# Altium schematic symbol library SWITCHES.SchLib: 19 symbols
Pins are listed as number, name and electrical type; pins without a type are passive.

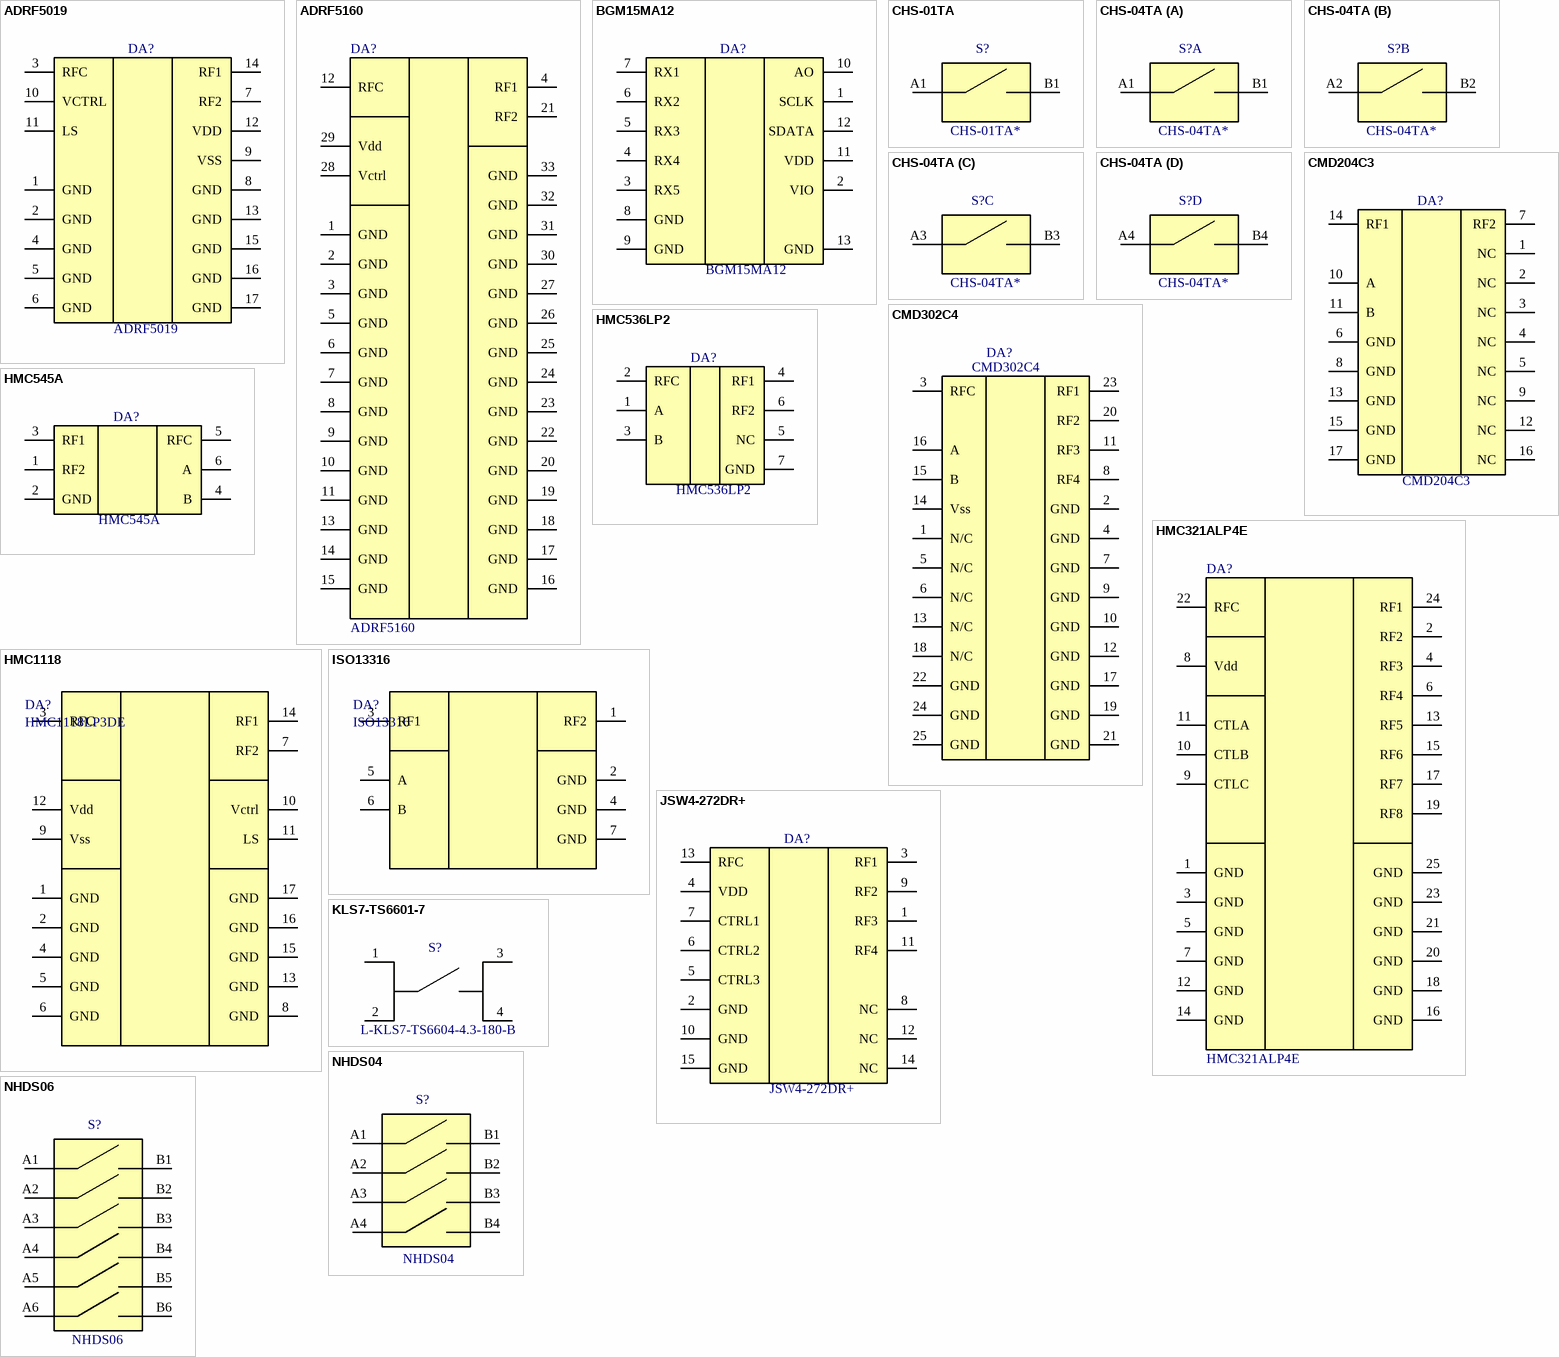
[diagram p0: symbols ADRF5019 to NHDS06]

## ADRF5019
designator DA?
Silicon, SPDT Switch, Nonreflective,  100 MHz to 13 GHz; Manufacturer: Analog Devices; PartNumber: ADRF5019
footprint QFN17P50_300X300X95L30X25T170N (Quad Flat No-Lead (QFN with Tab), 0.50 mm pitch; square, 4 pin X 4 pin, 3.00 mm L X 3.00 mm W X 0.95 mm H body)
pins: 1 GND, 2 GND, 3 RFC, 4 GND, 5 GND, 6 GND, 7 RF2, 8 GND, 9 VSS, 10 VCTRL, 11 LS, 12 VDD, 13 GND, 14 RF1, 15 GND, 16 GND, 17 GND

## ADRF5160
designator DA?
Silicon SPDT, / Reflective Switch, 0.7 GHz to 4.0 GHz; Manufacturer: Analog Devices; PartNumber: ADRF5160; Category: Switch; ComponentLink1Description: DataSheet; ComponentLink1URL: https://ru.mouser.com/datasheet/2/609/adrf5160-1503554.pdf
footprint QFN33P50_500X500X90L40X25T370N (Quad Flat No-Lead (QFN with Tab), 0.50 mm pitch; square, 8 pin X 8 pin, 5.00 mm L X 5.00 mm W X 0.90 mm H body)
pins: 1 GND, 2 GND, 3 GND, 4 RF1, 5 GND, 6 GND, 7 GND, 8 GND, 9 GND, 10 GND, 11 GND, 12 RFC, 13 GND, 14 GND, 15 GND, 16 GND, 17 GND, 18 GND, 19 GND, 20 GND, 21 RF2, 22 GND, 23 GND, 24 GND, 25 GND, 26 GND, 27 GND, 28 Vctrl, 29 Vdd, 30 GND, 31 GND, 32 GND, 33 GND

## BGM15MA12
designator DA?
Mid-Band LNA Multiplexer Module; Manufacturer: Infineon; PartNumber: BGM15MA12
footprint ATSLP-12-2 (Infineon case ATSLP-12-2)
pins: 1 SCLK, 2 VIO, 3 RX5, 4 RX4, 5 RX3, 6 RX2, 7 RX1, 8 GND, 9 GND, 10 AO, 11 VDD, 12 SDATA, 13 GND

## CHS-01TA
designator S?, comment CHS-01TA*
Low profile DIP-switch 1bit washable; Manufacturer: Nidec Copal Electronics; PartNumber: CHS-01TA*; ComponentLink1Description: DataSheet; ComponentLink1URL: https://www.nidec-copal-electronics.com/e/catalog/switch/chs.pdf
footprint CHS-01TA (Nicel Copal Electronics Low Profile)
pins: A1, B1

## CHS-04TA
designator S?, comment CHS-04TA*
Low profile DIP-switch 4bit washable; Manufacturer: Nidec Copal Electronics; PartNumber: CHS-04TA*; ComponentLink1Description: DataSheet; ComponentLink1URL: https://www.nidec-copal-electronics.com/e/catalog/switch/chs.pdf
footprint CHS-04TA (Nicel Copal Electronics Low Profile)
part A pins: A1, B1
part B pins: A2, B2
part C pins: A3, B3
part D pins: A4, B4

## CMD204C3
designator DA?
DC-20 GHz SPST Non-reflective Switch; Manufacturer: CustomMMIC; PartNumber: CMD204C3
footprint PQFN17P50_290X290X90L32X30T150N (Pullback Quad Flat No-Lead (PQFN with Tab), 0.50 mm pitch; square, 4 pin X 4 pin, 2.90 mm L X 2.90 mm W X 0.90 mm H body)
pins: 1 NC, 2 NC, 3 NC, 4 NC, 5 NC, 6 GND, 7 RF2, 8 GND, 9 NC, 10 A, 11 B, 12 NC, 13 GND, 14 RF1, 15 GND, 16 NC, 17 GND

## CMD302C4
designator DA?
DC-20 GHz SP4T Non-reflective Switch; Manufacturer: CustomMMIC; PartNumber: CMD302C4; ComponentLink1Description: DataSheet; ComponentLink1URL: https://www.custommmic.com/resources/cmd302c4-datasheet_0419.pdf
footprint PQFN25P50_390X390X100L32X30T250N (Pullback Quad Flat No-Lead (PQFN with Tab), 0.50 mm pitch; square, 6 pin X 6 pin, 3.90 mm L X 3.90 mm W X 1.00 mm H body)
pins: 1 N/C, 2 GND, 3 RFC, 4 GND, 5 N/C, 6 N/C, 7 GND, 8 RF4, 9 GND, 10 GND, 11 RF3, 12 GND, 13 N/C, 14 Vss, 15 B, 16 A, 17 GND, 18 N/C, 19 GND, 20 RF2, 21 GND, 22 GND, 23 RF1, 24 GND, 25 GND

## HMC321ALP4E
designator DA?
SP8T NON-REFLECTIVE / POSITIVE CONTROL SWITCH, DC - 8 GHz; Manufacturer: Analog Devices; ComponentLink1Description: DataSheet; ComponentLink1URL: https://www.analog.com/media/en/technical-documentation/data-sheets/HMC1118.pdf; Category: Switch; PartNumber: HMC321ALP4E
footprint QFN25P50_400X400X95L40X25T270N (Quad Flat No-Lead (QFN with Tab), 0.50 mm pitch; square, 6 pin X 6 pin, 4.00 mm L X 4.00 mm W X 0.95 mm H body)
pins: 1 GND, 2 RF2, 3 GND, 4 RF3, 5 GND, 6 RF4, 7 GND, 8 Vdd, 9 CTLC, 10 CTLB, 11 CTLA, 12 GND, 13 RF5, 14 GND, 15 RF6, 16 GND, 17 RF7, 18 GND, 19 RF8, 20 GND, 21 GND, 22 RFC, 23 GND, 24 RF1, 25 GND

## HMC536LP2
designator DA?
GaAs MMIC POSITIVE CONTROL T/R SWITCH, DC - 6 GHz; Manufacturer: Analog Devices; PartNumber: HMC536LP2
footprint SON7P65_200X200X100L35X25T140X80N (Small Outline No-Lead (SON with Tab), 0.65 mm pitch; 6 pin, 2.00 mm L X 2.00 mm W X 1.00 mm H body)
pins: 1 A, 2 RFC, 3 B, 4 RF1, 5 NC, 6 RF2, 7 GND

## HMC545A
designator DA?
GaAs MMIC SPDT SWITCH, DC - 3 GHz; Manufacturer: Analog Devices; PartNumber: HMC545A
footprint SOP6P95_290X280X145L45X40N (Small Outline Pkg (SOP), 0.95 mm pitch; 6 pin, 2.90 mm L X 1.60 mm W X 1.45 mm H body)
pins: 1 RF2, 2 GND, 3 RF1, 4 B, 5 RFC, 6 A

## HMC1118
designator DA?, comment HMC1118LP3DE
High Isolation Nonreflective Switch, 9 kHz to 13.0 GHz; Manufacturer: Analog Devices; ComponentLink1Description: DataSheet; ComponentLink1URL: https://www.analog.com/media/en/technical-documentation/data-sheets/HMC1118.pdf; Category: Switch; PartNumber: HMC1118LP3DE
footprint PQFN50P300X300X85_HS-17M (PQFN, 16-Leads, Body 3,00x3,00mm, Pitch 0,50mm, Thermal Pad 1,50x1,50mm, IPC Low Density)
pins: 1 GND, 2 GND, 3 RFC, 4 GND, 5 GND, 6 GND, 7 RF2, 8 GND, 9 Vss, 10 Vctrl, 11 LS, 12 Vdd, 13 GND, 14 RF1, 15 GND, 16 GND, 17 GND

## ISO13316
designator DA?
Non-Reflective Switch, DC to 6 GHz; Manufacturer: Skyworks; Category: Switch; PartNumber: ISO13316; ComponentLink1Description: DataSheet; ComponentLink1URL: http://www.skyworksinc.com/uploads/documents/ISO13316_203249B.pdf
footprint ISO-13316
pins: 1 RF2, 2 GND, 3 RF1, 4 GND, 5 A, 6 B, 7 GND

## JSW4-272DR+
designator DA?
SP4T RF Switch 50Ω 5 to 2700 MHz High Power 3W; Manufacturer: Mini-Circuits; PartNumber: JSW4-272DR+
footprint MT1817 (Mini-Circuits case MT1817)
pins: 1 RF3, 2 GND, 3 RF1, 4 VDD, 5 CTRL3, 6 CTRL2, 7 CTRL1, 8 NC, 9 RF2, 10 GND, 11 RF4, 12 NC, 13 RFC, 14 NC, 15 GND

## KLS7-TS6601-7
designator S?, comment L-KLS7-TS6604-4.3-180-B
Tact Switch; Manufacturer: KLS electronic co ltd; PartNumber: L-KLS7-TS6604-4.3-180-B; ComponentLink1Description: DataSheet; ComponentLink1URL: https://static.chipdip.ru/lib/551/DOC001551970.pdf
footprint DIP2_SOIC450P1000X350-4N (SOIP=C, 4-Leads, Body 6,00x6,00mm, Pitch 4,50mm, IPC Medium Density)
pins: 1, 2, 3, 4

## NHDS04
designator S?
SWITCH SLIDE DIP SPST 25MA 24V 4POS ON; PartNumber: NHDS04; Manufacturer: *
footprint DIP4_SOIC8P127_631X670X145L65X40 (DIP4 based on Small Outline IC (SOIC), 1.27 mm pitch; 8 pin, 6.31 mm L X 4.50 mm W X 1.45 mm H body)
pins: A1, A2, A3, A4, B1, B2, B3, B4

## NHDS06
designator S?
SWITCH SLIDE DIP SPST 25MA 24V 6POS ON; PartNumber: NHDS06; Manufacturer: *
footprint DIP6_SOIC12P127_885X670X145L65X40 (DIP6 based on Small Outline IC (SOIC), 1.27 mm pitch; 12 pin, 8.85 mm L X 4.50 mm W X 1.45 mm H body)
pins: A1, A2, A3, A4, A5, A6, B1, B2, B3, B4, B5, B6

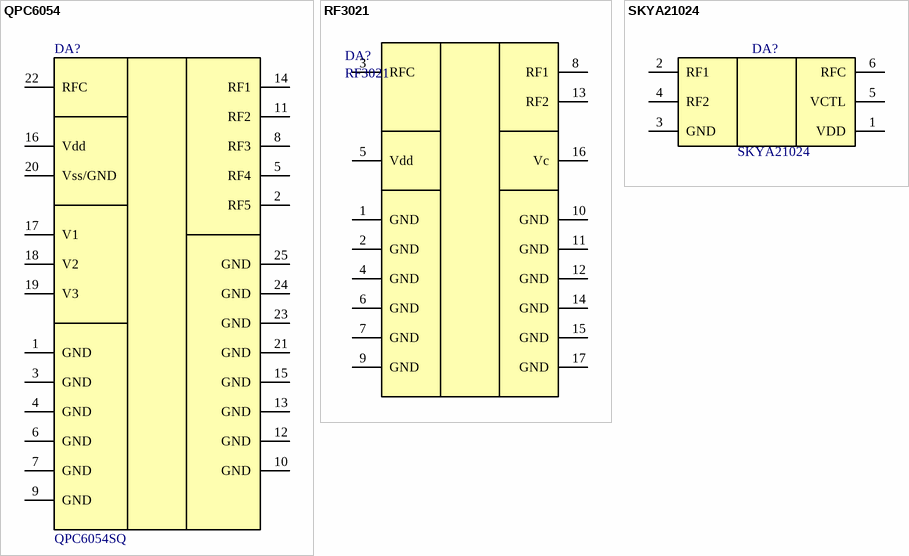
[diagram p1: symbols QPC6054 to SKYA21024]

## QPC6054
designator DA?, comment QPC6054SQ
High Isolation SP5T Switch 5 MHz to 6000 MHz; Manufacturer: Qorvo; Category: Switch; PartNumber: QPC6054SQ; ComponentLink1Description: DataSheet; ComponentLink1URL: https://ru.mouser.com/datasheet/2/412/QPC6054_Data_Sheet-1483506.pdf
footprint QFN25P50_400X400X95L40X25T270N (Quad Flat No-Lead (QFN with Tab), 0.50 mm pitch; square, 6 pin X 6 pin, 4.00 mm L X 4.00 mm W X 0.95 mm H body)
pins: 1 GND, 2 RF5, 3 GND, 4 GND, 5 RF4, 6 GND, 7 GND, 8 RF3, 9 GND, 10 GND, 11 RF2, 12 GND, 13 GND, 14 RF1, 15 GND, 16 Vdd, 17 V1, 18 V2, 19 V3, 20 Vss/GND, 21 GND, 22 RFC, 23 GND, 24 GND, 25 GND

## RF3021
designator DA?
High Isolation, Single Bit Control,Reflective Switch; Manufacturer: Qorvo; ComponentLink1Description: DataSheet; ComponentLink1URL: http://datasheet.elcodis.com/pdf/29/94/299420/rf3021tr7.pdf; Category: Switch; PartNumber: RF3021
footprint PQFN50P300X300X85_HS-17M (PQFN, 16-Leads, Body 3,00x3,00mm, Pitch 0,50mm, Thermal Pad 1,50x1,50mm, IPC Low Density)
pins: 1 GND, 2 GND, 3 RFC, 4 GND, 5 Vdd, 6 GND, 7 GND, 8 RF1, 9 GND, 10 GND, 11 GND, 12 GND, 13 RF2, 14 GND, 15 GND, 16 Vc, 17 GND

## SKYA21024
designator DA?
0.01 TO 6.0 GHz SINGLE CONTROL SPDT SWITCH; Manufacturer: Skyworks; PartNumber: SKYA21024; ComponentLink1Description: DataSheet; ComponentLink1URL: https://www.skyworksinc.com/-/media/SkyWorks/Documents/Products/2701-2800/SKYA21024_204618C.pdf
footprint SKYA21024 (Slyworks SKYA21024)
pins: 1 VDD, 2 RF1, 3 GND, 4 RF2, 5 VCTL, 6 RFC